# Altium footprint library 1720650202.PcbLib: 1 footprints
Each footprint in its own frame and in the unit in brackets; x right, y up, seen from the top. Pads: shape width x height; smd on the part's side, far side on the other; paste and mask are expansions set on the pad; w line width, h text height; cw(c..) or ccw(c..) is an arc to the next point about the centre after c.
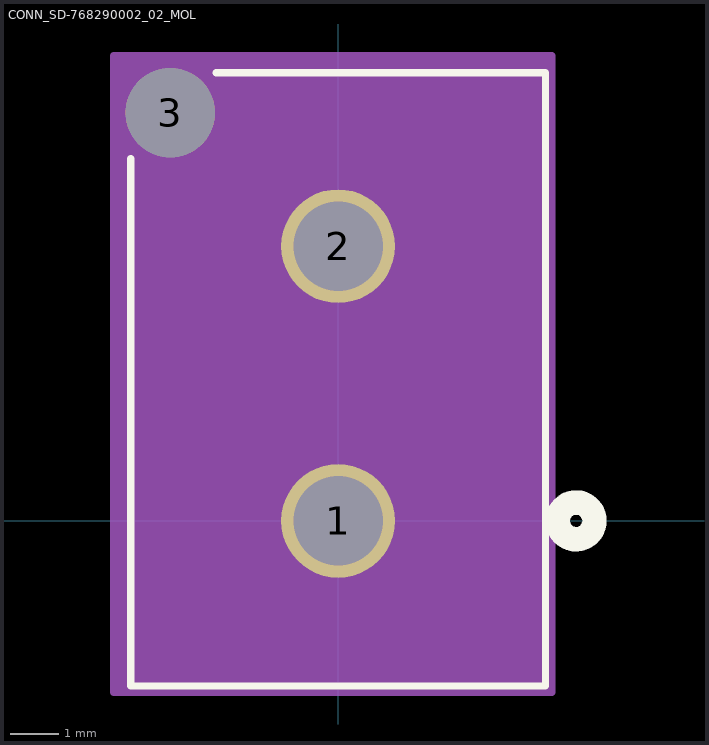
[diagram p0: the footprint, top view; thin cyan lines are the x and y axes]

## CONN_SD-768290002_02_MOL [mil]
pads (3):
  round 93 / inner round 60 / far side round 93 hole 73 paste-46.5 mask+0: 1(0,0) 2(0,224.41)
  round 73 / inner round 60 / far side round 73 hole 73 unplated paste-36.5 mask-36.5: 3(-137.01,333.46)
Top Overlay:
  circle w20: c194.5,0 r15
  lines w6: -169.5,295.99 -169.5,-134.98 169.5,-134.98 169.5,366.02 -99.59,366.02
Bottom Overlay:
  circle w20: c194.5,0 r15
Mechanical 13:
  circle w20: c0,-75 r15
  lines w1: -164.5,-129.98 164.5,-129.98 164.5,361.02 -164.5,361.02 -164.5,-129.98
Mechanical 15:
  region: 174.5,379.96 -183.51,379.96 -183.51,-139.98 174.5,-139.98
  lines w6: -183.51,-139.98 -183.51,379.96 174.5,379.96 174.5,-139.98 -183.51,-139.98